# Altium integrated library TAOGLAS GP.1575.18.4.A.02 v1.0.IntLib: 1 symbol
Pins are listed as number, name and electrical type; pins without a type are passive.

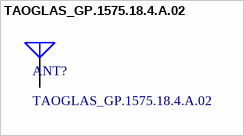
[diagram p0: symbol TAOGLAS_GP.1575.18.4.A.02]

## TAOGLAS_GP.1575.18.4.A.02
designator ANT?
Miniature GPS/Galileo Patch Antenna Pin Fed; ComponentLibStatus: Created; Temp_High: +85C; Temp_Low: -40C; Datasheet: http://cdn.taoglas.com/datasheets/GP.1575.18.4.A.02.pdf; FootprintLibStatus: Created; MFG: Taoglas; MFGPN: GP.1575.18.4.A.02; RoHS: RoHS Compliant; Version: 1.0
footprint TAOGLAS_GP.1575.18.4.A.02 (1575.42MHz Patch Antenna (18mmx18mmx4.0mm))
pins: 1 A